# EAGLE library part LARA-R2 (library LARA-R2)
LARA-R2 series: Size-optimized LTE Cat 1 modules in single and multi-mode configurations
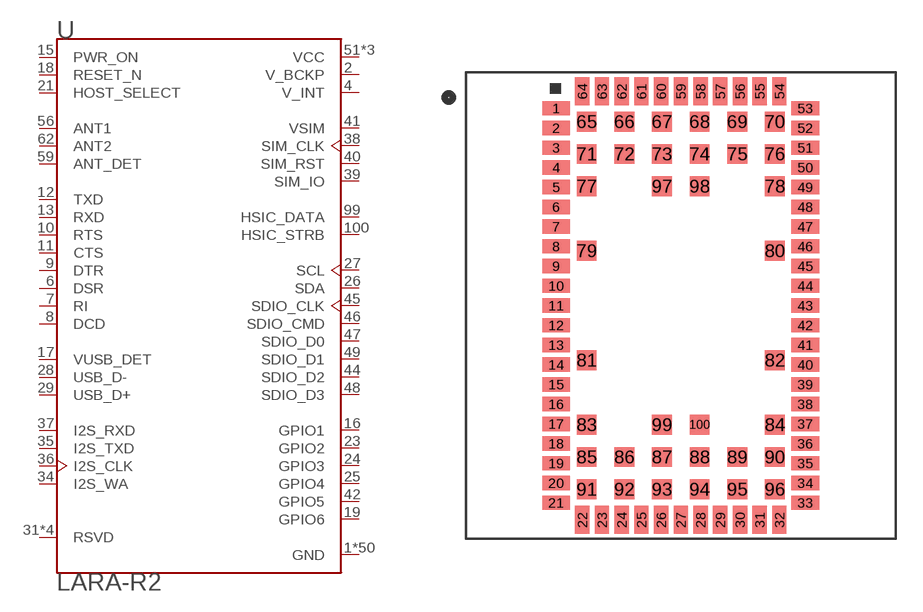
[diagram p0: symbol with the pads of XCVR_LARA-R2; footprint XCVR_LARA-R2]

Designator prefix U

## LARA-R2 (Availability: Unavailable; Description: Cellular 4G LTE CAT-1 _Verizon_ Transceiver Module 900MHz, 1.8GHz Antenna Not Included, Castellation Surface Mount; MF: U-Blox America; MP: LARA-R2; Package: SMD-100 U-Blox America; Price: None)  [XCVR_LARA-R2]
1  GND  pwr
2  V_BCKP  pwr
3  GND  pwr
4  V_INT  pwr
5  GND  pwr
6  DSR  out
7  RI  out
8  DCD  out
9  DTR  in
10  RTS  in
11  CTS  out
12  TXD  in
13  RXD  out
14  GND  pwr
15  PWR_ON  in
16  GPIO1
17  VUSB_DET  in
18  RESET_N  in
19  GPIO6  out
20  GND  pwr
21  HOST_SELECT
22  GND  pwr
23  GPIO2
24  GPIO3
25  GPIO4
26  SDA
27  SCL  out
28  USB_D-
29  USB_D+
30  GND  pwr
31  RSVD  pas
32  GND  pwr
33  RSVD  pas
34  I2S_WA
35  I2S_TXD
36  I2S_CLK
37  I2S_RXD
38  SIM_CLK  out
39  SIM_IO
40  SIM_RST  out
41  VSIM  out
42  GPIO5
43  GND  pwr
44  SDIO_D2
45  SDIO_CLK  out
46  SDIO_CMD
47  SDIO_D0
48  SDIO_D3
49  SDIO_D1
50  GND  pwr
51  VCC  pwr
52  VCC  pwr
53  VCC  pwr
54  GND  pwr
55  GND  pwr
56  ANT1
57  GND  pwr
58  GND  pwr
59  ANT_DET  in
60  GND  pwr
61  GND  pwr
62  ANT2  in
63  GND  pwr
64  GND  pwr
65  GND  pwr
66  GND  pwr
67  GND  pwr
68  GND  pwr
69  GND  pwr
70  GND  pwr
71  GND  pwr
72  GND  pwr
73  GND  pwr
74  GND  pwr
75  GND  pwr
76  GND  pwr
77  GND  pwr
78  GND  pwr
79  GND  pwr
80  GND  pwr
81  GND  pwr
82  GND  pwr
83  GND  pwr
84  GND  pwr
85  GND  pwr
86  GND  pwr
87  GND  pwr
88  GND  pwr
89  GND  pwr
90  GND  pwr
91  GND  pwr
92  GND  pwr
93  GND  pwr
94  GND  pwr
95  GND  pwr
96  GND  pwr
97  RSVD  pas
98  RSVD  pas
99  HSIC_DATA
100  HSIC_STRB

## Footprint XCVR_LARA-R2 (pad centres in mm)
smd 1.55 x 0.8: 1 -6.95,11; 2 -6.95,9.9; 3 -6.95,8.8; 4 -6.95,7.7; 5 -6.95,6.6; 6 -6.95,5.5; 7 -6.95,4.4; 8 -6.95,3.3; 9 -6.95,2.2; 10 -6.95,1.1; 11 -6.95,0; 12 -6.95,-1.1; 13 -6.95,-2.2; 14 -6.95,-3.3; 15 -6.95,-4.4; 16 -6.95,-5.5; 17 -6.95,-6.6; 18 -6.95,-7.7; 19 -6.95,-8.8; 20 -6.95,-9.9; 21 -6.95,-11; 33 6.95,-11; 34 6.95,-9.9; 35 6.95,-8.8; 36 6.95,-7.7; 37 6.95,-6.6; 38 6.95,-5.5; 39 6.95,-4.4; 40 6.95,-3.3; 41 6.95,-2.2; 42 6.95,-1.1; 43 6.95,0; 44 6.95,1.1; 45 6.95,2.2; 46 6.95,3.3; 47 6.95,4.4; 48 6.95,5.5; 49 6.95,6.6; 50 6.95,7.7; 51 6.95,8.8; 52 6.95,9.9; 53 6.95,11
smd 0.8 x 1.55: 22 -5.5,-11.95; 23 -4.4,-11.95; 24 -3.3,-11.95; 25 -2.2,-11.95; 26 -1.1,-11.95; 27 0,-11.95; 28 1.1,-11.95; 29 2.2,-11.95; 30 3.3,-11.95; 31 4.4,-11.95; 32 5.5,-11.95; 54 5.5,11.95; 55 4.4,11.95; 56 3.3,11.95; 57 2.2,11.95; 58 1.1,11.95; 59 0,11.95; 60 -1.1,11.95; 61 -2.2,11.95; 62 -3.3,11.95; 63 -4.4,11.95; 64 -5.5,11.95
smd 1.1 x 1.1: 65 -5.25,10.25; 66 -3.15,10.25; 67 -1.05,10.25; 68 1.05,10.25; 69 3.15,10.25; 70 5.25,10.25; 71 -5.25,8.45; 72 -3.15,8.45; 73 -1.05,8.45; 74 1.05,8.45; 75 3.15,8.45; 76 5.25,8.45; 77 -5.25,6.65; 78 5.25,6.65; 79 -5.25,3.05; 80 5.25,3.05; 81 -5.25,-3.05; 82 5.25,-3.05; 83 -5.25,-6.65; 84 5.25,-6.65; 85 -5.25,-8.45; 86 -3.15,-8.45; 87 -1.05,-8.45; 88 1.05,-8.45; 89 3.15,-8.45; 90 5.25,-8.45; 91 -5.25,-10.25; 92 -3.15,-10.25; 93 -1.05,-10.25; 94 1.05,-10.25; 95 3.15,-10.25; 96 5.25,-10.25; 97 -1.05,6.65; 98 1.05,6.65; 99 -1.05,-6.65; 100 1.05,-6.65